# Altium footprint library 边缘网关-17KF4-END1.PcbLib: 29 footprints (part 2 of 2)
Each footprint in its own frame and in the unit in brackets; x right, y up, seen from the top. Pads: shape width x height; smd on the part's side, far side on the other; paste and mask are expansions set on the pad; w line width, h text height; cw(c..) or ccw(c..) is an arc to the next point about the centre after c.
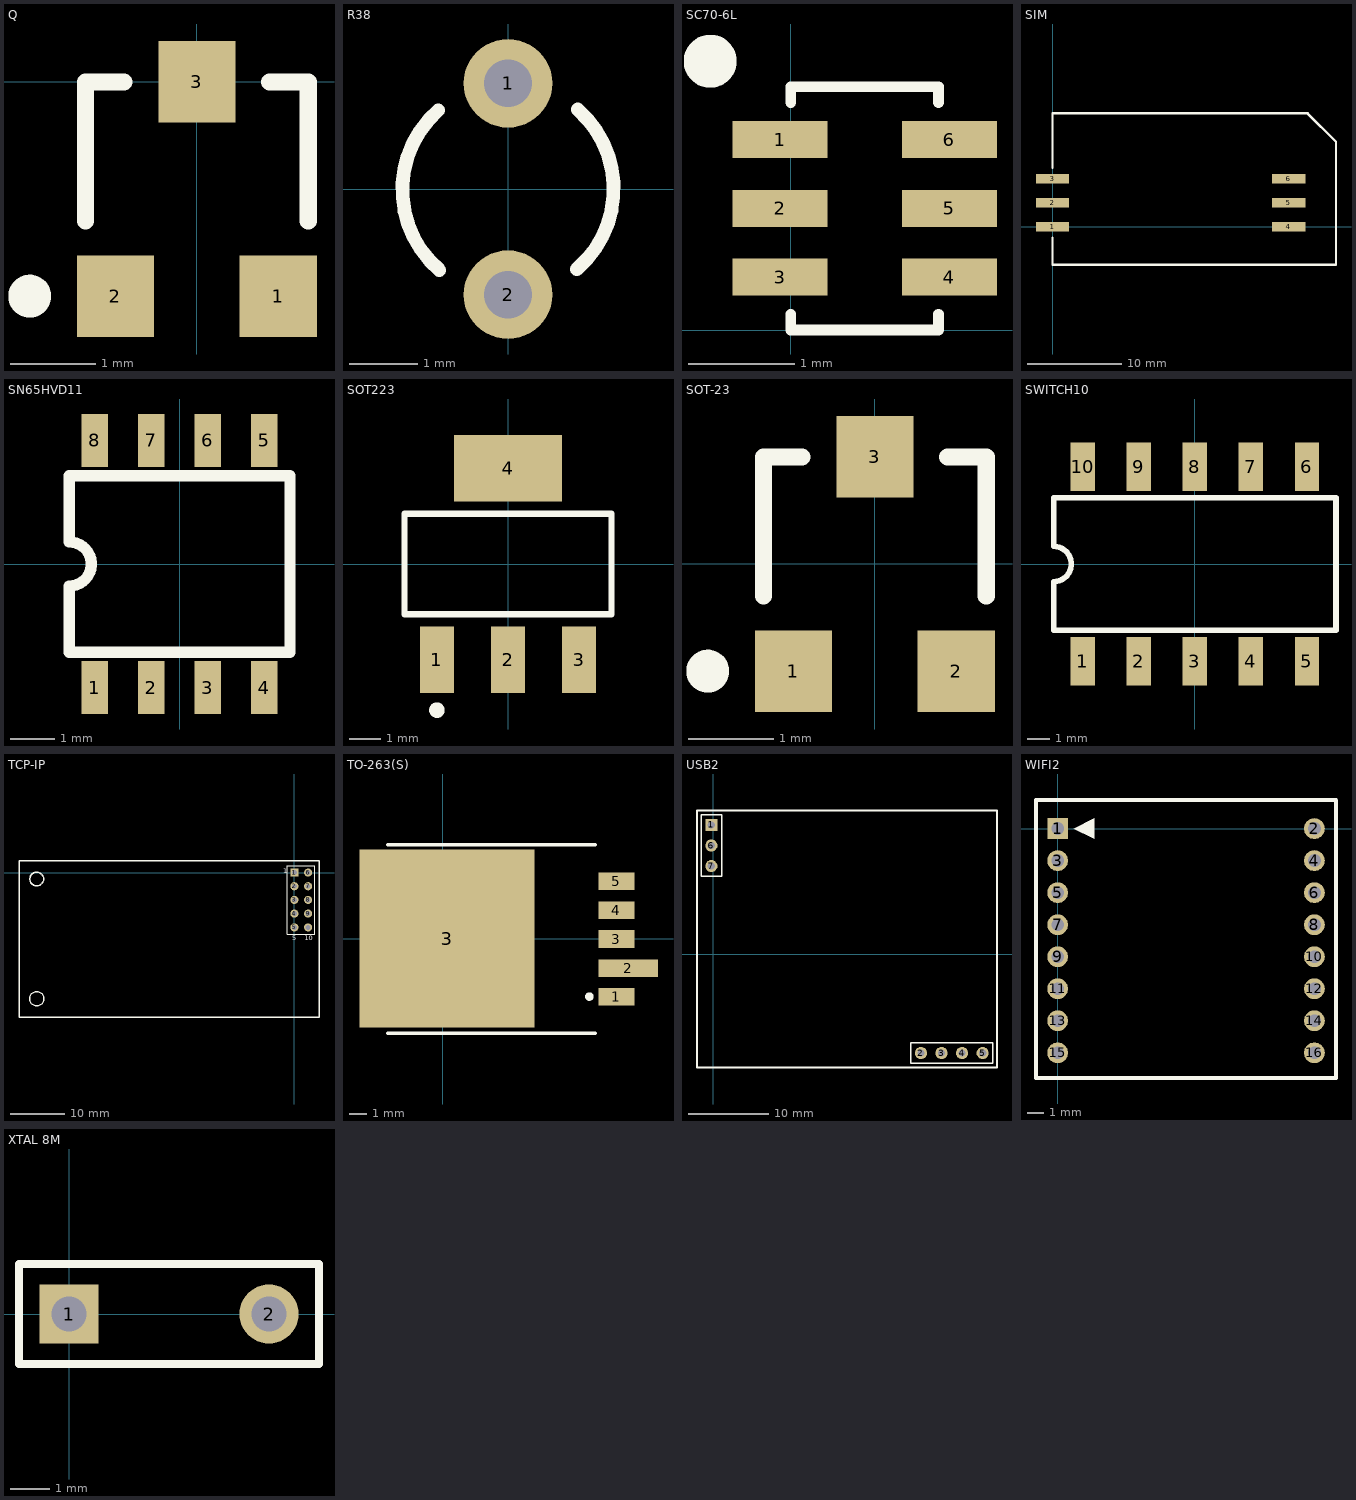
[diagram p1: the footprints below, top view; thin cyan lines are the x and y axes]

## Q [mm]
pads (3):
  rect 0.9x0.95 smd: 1(0.95,-2.5) 2(-0.95,-2.5) 3(0,0)
Top Overlay:
  circle w0.25: c-1.95,-2.5 r0.125
  lines w0.2: -1.3,-1.625 -1.3,0 -0.85,0 ; 0.85,0 1.3,0 1.3,-1.625

## R38 [mm] "Crystal, Thru-Hole; 2 Leads; Body 3.1 x 8.2 mm (Dia.xH)"
height 8.2
pads (2):
  round 1.3 hole 0.7: 1(0,1.55) 2(0,-1.55)
Top Overlay:
  lines w0.2: -1.022,1.155 ccw(c0,-0.01) -1.006,-1.189 ; 1.006,-1.179 ccw(c0,0) 1.022,1.165

## SC70-6L [mm] "SMF05C"
height 1.1
pads (6):
  rect 0.9x0.35 smd: 1(-0.1,1.8) 2(-0.1,1.15) 3(-0.1,0.5) 4(1.5,0.5) 5(1.5,1.15) 6(1.5,1.8)
Top Overlay:
  circle w0.25: c-0.76,2.54 r0.125
  lines w0.1: 0,0.15 0,0 1.397,0 1.397,0.15 ; 0,2.15 0,2.3 1.397,2.3 1.397,2.15

## SIM [mm]
pads (6):
  rect 3.5x1 smd: 1(0,0) 2(0,2.54) 3(0,5.08) 4(25,0) 5(25,2.54) 6(25,5.08)
Top Overlay:
  lines w0.254: 0,-1.143 0,-4 25,-4 30,-4 30,-1.346 30,9 27,12 0,12 0,6.248

## SN65HVD11 [mm]
pads (8):
  rect 0.6x1.2 smd: 1(-1.92,-2.8) 2(-0.64,-2.8) 3(0.64,-2.8) 4(1.92,-2.8) 5(1.92,2.8) 6(0.64,2.8) 7(-0.64,2.8) 8(-1.92,2.8)
Top Overlay:
  lines w0.254: -2.5,-2 -2.5,-0.5 ccw(c-2.5,0) -2.5,0.5 -2.5,2 2.5,2 2.5,-2 -2.5,-2

## SOT223 [mm] "SOT-223/SC-73; 4 Leads; Body 6.7 x 7.3 mm, inc. leads (LxW max)"
height 1.8
pads (4):
  rect 1.1x2.15 smd: 1(-2.3,-3.1) 2(0,-3.1) 3(2.3,-3.1)
  rect 3.5x2.15 smd: 4(0,3.1)
Top Overlay:
  circle w0.25: c-2.3,-4.725 r0.125
  lines w0.2: -3.35,-1.625 -3.35,1.625 3.35,1.625 3.35,-1.625 -3.35,-1.625

## SOT-23 [mm] "SOT-23; 3 Leads; Body 3.0 x 2.6 mm, inc. leads (LxW max)"
height 1.1
pads (3):
  rect 0.9x0.95 smd: 1(-0.95,-1.25) 2(0.95,-1.25) 3(0,1.25)
Top Overlay:
  circle w0.25: c-1.95,-1.25 r0.125
  lines w0.2: -1.3,-0.375 -1.3,1.25 -0.85,1.25 ; 0.85,1.25 1.3,1.25 1.3,-0.375

## SWITCH10 [mm]
pads (10):
  rect 1.1x2.2 smd: 1(-5.08,-4.4) 2(-2.54,-4.4) 3(0,-4.4) 4(2.54,-4.4) 5(5.08,-4.4) 6(5.08,4.4) 7(2.54,4.4) 8(0,4.4) 9(-2.54,4.4) 10(-5.08,4.4)
Top Overlay:
  lines w0.254: -6.4,-3 6.4,-3 6.4,3 -6.4,3 -6.4,0.8 cw(c-6.4,0) -6.4,-0.8 -6.4,-3

## TCP-IP [mm]
pads (10):
  rect 1.5x1.5 hole 0.9: 1(0,0)
  round 1.5 hole 0.9: 2(0,-2.54) 3(0,-5.08) 4(0,-7.62) 5(0,-10.16) 6(2.54,0) 7(2.54,-2.54) 8(2.54,-5.08) 9(2.54,-7.62) 10(2.54,-10.16)
Top Overlay:
  circle w0.25: c-47.76,-23.4 r1.333
  circle w0.25: c-47.76,-1.2 r1.27
  lines w0.2: -1.27,-11.43 -1.27,1.27 3.81,1.27 3.81,-11.43 -1.27,-11.43
  lines w0.254: -51.054,-26.797 4.572,-26.797 4.572,2.159 -51.054,2.159 -51.054,-26.797
  text "1" at -2.032,-0.508 h1.52
  text "5" at -0.381,-12.954 h1.52
  text "10" at 1.905,-12.954 h1.52

## TO-263(S) [mm]
height 2.54
pads (6):
  rect 2.1x1.05 smd: 1(10.247,-3.425) 3(10.247,-0.025) 4(10.247,1.675) 5(10.247,3.375)
  rect 3.5x1.05 smd: 2(10.947,-1.753)
  rect 10.3x10.5 smd: 3(0.256,0)
Top Overlay:
  circle w0.25: c8.647,-3.425 r0.125
  lines w0.2: -3.253,-5.575 9,-5.575 ; -3.253,5.525 9,5.525

## USB2 [mm]
pads (7):
  rect 1.5x1.5 hole 0.9 square: 1(-0.254,16.002)
  round 1.5 hole 0.9: 2(25.654,-12.192) 3(28.194,-12.192) 4(30.734,-12.192) 5(33.274,-12.192) 6(-0.254,13.462) 7(-0.254,10.922)
Top Overlay:
  lines w0.2: -1.524,9.652 -1.524,17.272 1.016,17.272 1.016,9.652 -1.524,9.652 ; 24.384,-13.462 24.384,-10.922 34.544,-10.922 34.544,-13.462 24.384,-13.462
  lines w0.254: -2.032,-13.97 -2.032,17.78 35.052,17.78 35.052,-13.97 -2.032,-13.97

## WIFI2 [mm]
pads (16):
  rect 1.3x1.3 hole 0.8: 1(0,0)
  round 1.3 hole 0.8: 2(16.03,0) 3(0,-2) 4(16.03,-2) 5(0,-4) 6(16.03,-4) 7(0,-6) 8(16.03,-6) 9(0,-8) 10(16.03,-8) 11(0,-10) 12(16.03,-10) 13(0,-12) 14(16.03,-12) 15(0,-14) 16(16.03,-14)
Top Overlay:
  region: 1.016,0 2.286,-0.635 2.286,0.635
  lines w0.254: -1.354,-15.568 17.38,-15.568 17.38,1.772 -1.354,1.784 -1.354,-15.568

## XTAL 8M [mm]
pads (2):
  rect 1.5x1.5 hole 0.9: 1(0,0)
  round 1.5 hole 0.9: 2(5.08,0)
Top Overlay:
  lines w0.2: -1.27,-1.27 6.35,-1.27 6.35,1.27 -1.27,1.27 -1.27,-1.27